# EAGLE library part AK4554VT (library 000_ICS)
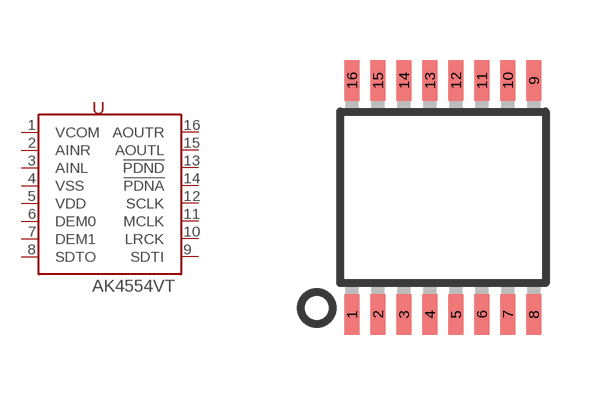
[diagram p4: symbol with the pads of SSOP16; footprint SSOP16]

Designator prefix U

## AK4554VT (1PC: 2.88; DATASHEET: http://www.akm.com/akm/en/file/datasheet/AK4554VT.pdf; DIGIKEY: 974-1020-1-ND; HEIGHT: 1.05; VALUE: AK4554vt)  [SSOP16]
1  VCOM
2  AINR
3  AINL
4  VSS
5  VDD
6  DEM0
7  DEM1
8  SDTO
9  SDTI
10  LRCK
11  MCLK
12  SCLK
13  !PDND
14  !PDNA
15  AOUTL
16  AOUTR

## Footprint SSOP16 (pad centres in mm)
Small Shrink Outline Package
smd 0.381 x 1.016: 1 -2.275,-2.925; 2 -1.625,-2.925; 3 -0.975,-2.925; 4 -0.325,-2.925; 5 0.325,-2.925; 6 0.975,-2.925; 7 1.625,-2.925; 8 2.275,-2.925; 9 2.275,2.925; 10 1.625,2.925; 11 0.975,2.925; 12 0.325,2.925; 13 -0.325,2.925; 14 -0.975,2.925; 15 -1.625,2.925; 16 -2.275,2.925